# EAGLE library part GHI-CONNECTORS_SCHA5B0200(ALPS_USD) (library BeagleBone_Blue)
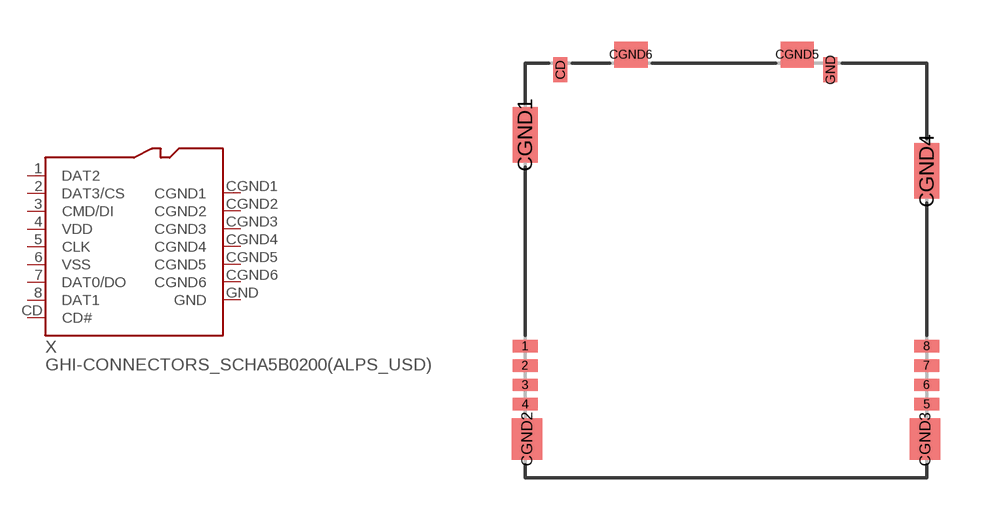
[diagram p6: symbol with the pads of GHI-CONNECTORS_SCHA5B0200; footprint GHI-CONNECTORS_SCHA5B0200]

Designator prefix X

## GHI-CONNECTORS_SCHA5B0200(ALPS_USD)  [GHI-CONNECTORS_SCHA5B0200]
1  DAT2
2  DAT3/CS
3  CMD/DI
4  VDD
5  CLK
6  VSS
7  DAT0/DO
8  DAT1
CD  CD#
CGND1  CGND1
CGND2  CGND2
CGND3  CGND3
CGND4  CGND4
CGND5  CGND5
CGND6  CGND6
GND  GND

## Footprint GHI-CONNECTORS_SCHA5B0200 (pad centres in mm)
smd 0.9 x 0.45: 1 -7.25,3.365; 2 -7.25,2.665; 3 -7.25,1.965; 4 -7.25,1.265; 5 7.25,1.265; 6 7.25,1.965; 7 7.25,2.665; 8 7.25,3.365
smd 0.5 x 0.9: CD -5.975,13.35; GND 3.775,13.35
smd 0.9 x 2: CGND1 -7.25,11; CGND4 7.25,9.7
smd 1.1 x 1.5: CGND2 -7.188,0; CGND3 7.188,0
smd 1.2 x 0.95: CGND5 2.575,13.9; CGND6 -3.425,13.9